# Altium footprint library QFN50P400X400X80_HS-21N.PcbLib: 1 footprints
Each footprint in its own frame and in the unit in brackets; x right, y up, seen from the top. Pads: shape width x height; smd on the part's side, far side on the other; paste and mask are expansions set on the pad; w line width, h text height; cw(c..) or ccw(c..) is an arc to the next point about the centre after c.
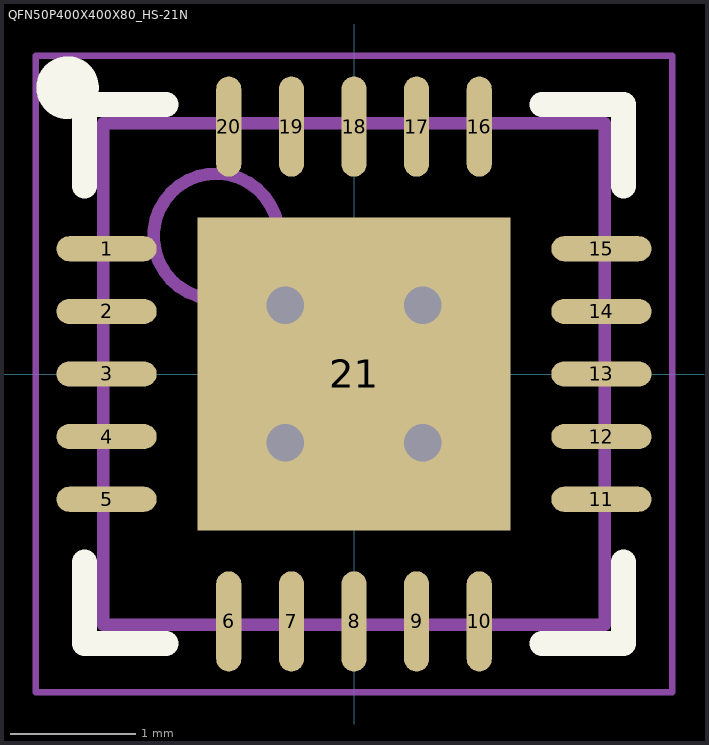
[diagram p0: the footprint, top view; thin cyan lines are the x and y axes]

## QFN50P400X400X80_HS-21N [mm] "QFN, 20-Leads, Body 4.00x4.00mm, Pitch 0.50mm, Thermal Pad 2.80x2.80mm, IPC Medium Density"
height 0.8
pads (21):
  oval 0.8x0.2 smd paste-0.02 mask+0.05: 1(-1.975,1) 2(-1.975,0.5) 3(-1.975,0) 4(-1.975,-0.5) 5(-1.975,-1) 11(1.975,-1) 12(1.975,-0.5) 13(1.975,0) 14(1.975,0.5) 15(1.975,1)
  oval 0.2x0.8 smd paste-0.02 mask+0.05: 6(-1,-1.975) 7(-0.5,-1.975) 8(0,-1.975) 9(0.5,-1.975) 10(1,-1.975) 16(1,1.975) 17(0.5,1.975) 18(0,1.975) 19(-0.5,1.975) 20(-1,1.975)
  rect 2.5x2.5 smd paste-10 mask+0.05: 21(0,0)
via 0.55,-0.55 diameter 0.6 hole 0.3
via -0.55,-0.55 diameter 0.6 hole 0.3
via 0.55,0.55 diameter 0.6 hole 0.3
via -0.55,0.55 diameter 0.6 hole 0.3
Top Overlay:
  circle w0.25: c-2.286,2.286 r0.125
  lines w0.2: -2.15,-1.5 -2.15,-2.15 -1.5,-2.15 ; -2.15,1.5 -2.15,2.15 -1.5,2.15 ; 1.5,-2.15 2.15,-2.15 2.15,-1.5 ; 1.5,2.15 2.15,2.15 2.15,1.5
Top Paste:
  region: 1.143,-0.127 0.127,-0.127 0.127,-1.143 1.143,-1.143
  rectangle: -1.143,0.127 -0.127,1.143
  region: 1.143,1.143 0.127,1.143 0.127,0.127 1.143,0.127
  rectangle: -1.143,-1.143 -0.127,-0.127
Top Assembly:
  circle w0.1: c-1.1,1.1 r0.5
  lines w0.1: -2,-2 -2,2 2,2 2,-2 -2,-2
Top Courtyard:
  lines w0.05: -2.54,-2.54 -2.54,2.54 2.54,2.54 2.54,-2.54 -2.54,-2.54
  lines w0.1: -0.5,0 0.5,0 ; 0,-0.5 0,0.5
3D body "QFN50P400X400X80_HS-21N.step": height 0.8, standoff 0, extent -2.05,-2.05 2.05,2.05